# EAGLE library part 90814-0612 (library Molex_By_element14_Batch_1)
CONN HEADER 12POS 1.27MM SMD TIN
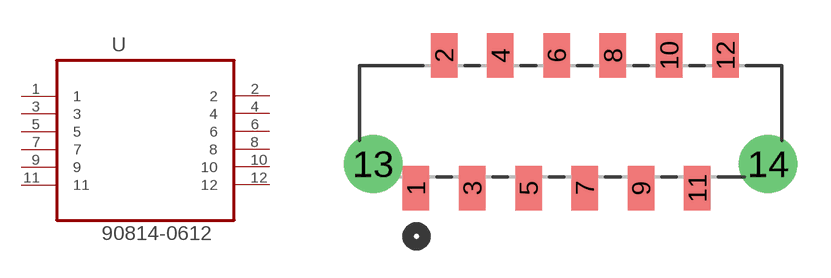
[diagram p56: symbol with the pads of MOLEX_90814-0612; footprint MOLEX_90814-0612]

Designator prefix U

## 90814-0612 (MPN: 90814-0612; OC_FARNELL: -; OC_NEWARK: 57R3136; PACKAGE: CONN-12POS; SUPPLIER: Molex)  [MOLEX_90814-0612]
1  1  pas
2  2  pas
3  3  pas
4  4  pas
5  5  pas
6  6  pas
7  7  pas
8  8  pas
9  9  pas
10  10  pas
11  11  pas
12  12  pas

## Footprint MOLEX_90814-0612 (pad centres in mm)
smd 1.194 x 2.007: 1 0,0; 2 1.27,5.994; 3 2.54,0; 4 3.81,5.994; 5 5.08,0; 6 6.35,5.994; 7 7.62,0; 8 8.89,5.994; 9 10.16,0; 10 11.43,5.994; 11 12.7,0; 12 13.97,5.994
drill 1.753: 13 -1.93,1.092; 14 15.9,1.092